# Altium footprint library myPcbLib1.PcbLib: 133 footprints (part 1 of 9)
Each footprint in its own frame and in the unit in brackets; x right, y up, seen from the top. Pads: shape width x height; smd on the part's side, far side on the other; paste and mask are expansions set on the pad; w line width, h text height; cw(c..) or ccw(c..) is an arc to the next point about the centre after c.
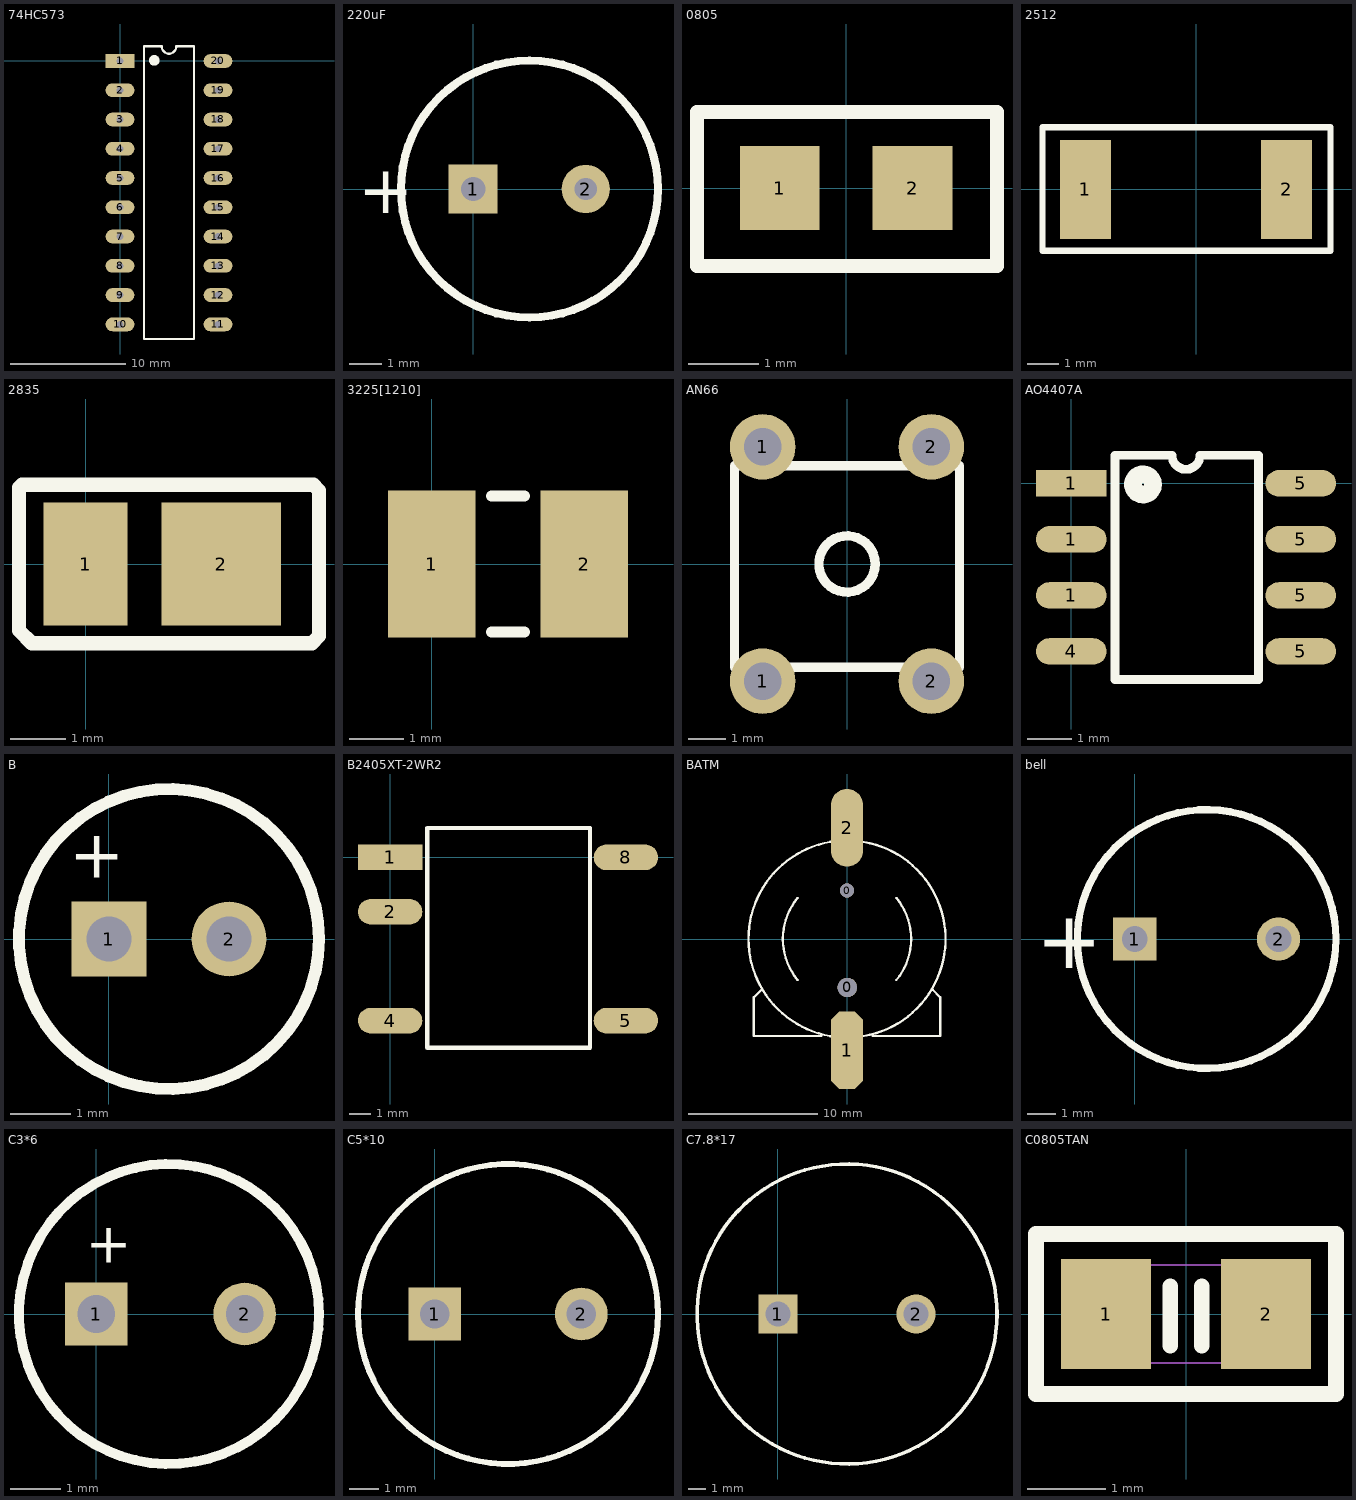
[diagram p0: the footprints below, top view; thin cyan lines are the x and y axes]

## 74HC573 [mm]
pads (20):
  rect 2.5x1.2 hole 0.6: 1(0,0)
  oval 2.5x1.2 hole 0.6: 2(0,-2.54) 3(0,-5.08) 4(0,-7.62) 5(0,-10.16) 6(0,-12.7) 7(0,-15.24) 8(0,-17.78) 9(0,-20.32) 10(0,-22.86) 11(8.5,-22.86) 12(8.5,-20.32) 13(8.5,-17.78) 14(8.5,-15.24) 15(8.5,-12.7) 16(8.5,-10.16) 17(8.5,-7.62) 18(8.5,-5.08) 19(8.5,-2.54) 20(8.5,0)
Top Overlay:
  circle w0.6: c2.972,0.051 r0.163
  lines w0.2: 2.085,-24.13 6.415,-24.13 6.415,1.27 4.885,1.27 cw(c4.25,1.27) 3.615,1.27 2.085,1.27 2.085,-24.13

## 220uF [mm]
pads (2):
  rect 1.524x1.524 hole 0.762: 1(0,0)
  round 1.5 hole 0.7: 2(3.5,0)
Top Overlay:
  circle w0.254: c1.75,0 r4
  text "+" at -3.584,-0.762 h1.5

## 0805 [mm] "1.14mm,1.2mm,3.05mm"
pads (2):
  rect 1.14x1.2 smd: 1(-0.95,0) 2(0.95,0)
Top Overlay:
  lines w0.2: -2.134,-1.118 -2.134,0.27 -2.134,1.092 2.159,1.092 2.159,-1.118 -2.134,-1.118

## 2512 [mm]
pads (2):
  rect 1.65x3.2 smd: 1(-3.58,0) 2(2.92,0)
Top Overlay:
  lines w0.2: -4.975,-1.981 4.343,-1.981 4.343,2.007 -4.975,2.007 -4.975,0 -4.975,-1.981

## 2835 [mm] "LED light footprints"
pads (2):
  rect 1.5x2.2 smd: 1(0,0)
  rect 2.15x2.2 smd: 2(2.438,0)
Top Overlay:
  lines w0.254: -1.194,-1.194 -0.965,-1.422 4.064,-1.422 4.191,-1.295 4.191,1.321 4.089,1.422 -1.143,1.422 -1.194,1.372 -1.194,1.067 -1.194,-1.194

## 3225[1210] [mm] "Chip Resistor; Body 3.2 x 2.5 mm (LxW typ)"
pads (2):
  rect 1.6x2.7 smd: 1(0,0) 2(2.8,0)
Top Overlay:
  lines w0.2: 1.1,-1.25 1.7,-1.25 ; 1.1,1.25 1.7,1.25

## AN66 [mil]
pads (4):
  round 70 hole 40: 1(-90,-125) 1(-90,125) 2(90,-125) 2(90,125)
Top Overlay:
  circle w10: c0,0 r30
  lines w10: -120,-110 120,-110 120,105 -120,105 -120,-110

## AO4407A [mm]
pads (8):
  oval 1.6x0.6 smd: 1(0,-2.54) 1(0,-1.27) 4(0,-3.81) 5(5.2,-3.81) 5(5.2,-2.54) 5(5.2,-1.27) 5(5.2,0)
  rect 1.6x0.6 smd: 1(0,0)
Top Overlay:
  circle w0.4: c1.626,-0.025 r0.227
  lines w0.2: 0.991,-4.445 0.991,0.635 2.282,0.635 ccw(c2.6,0.635) 2.917,0.635 4.242,0.635 4.242,-4.445 0.991,-4.445

## B [mm] "Capacitor, Electrolytic, Radial; Body 5 x 6.8 mm (Dia.xH typ); Pin Spacing 2 mm (typ)"
pads (2):
  rect 1.25x1.25 hole 0.75: 1(0,0)
  round 1.25 hole 0.75: 2(2,0)
Top Overlay:
  circle w0.2: c1,0 r2.5
  text "+" at -0.661,1.023 h0.8

## B2405XT-2WR2 [mm]
pads (5):
  rect 3x1.2 smd: 1(0,0)
  oval 3x1.2 smd: 2(0,-2.54) 4(0,-7.62) 5(11,-7.62) 8(11,0)
Top Overlay:
  lines w0.2: 1.727,-8.89 1.727,1.372 6.147,1.372 9.322,1.372 9.322,-8.89 1.727,-8.89

## BATM [mm]
pads (4):
  round 1.1 hole 1.1 unplated: 0(-0.012,3.75)
  round 1.5 hole 1.5 unplated: 0(0.012,-3.75)
  oct 2.5x6 smd: 1(-0.012,-8.6)
  oval 2.5x6 smd: 2(-0.012,8.6)
Top Overlay:
  lines w0.178: -6.612,-3.9 -7.212,-4.5 -7.212,-7.5 -2.012,-7.5 ; -3.827,-3.169 cw(c-0.012,0) -3.825,3.172 ; -0.846,-7.574 cw(c-0.012,0) -7.632,0 cw(c-0.012,0) -0.846,7.574 ; 0.821,-7.574 ccw(c-0.012,0) 0.821,7.574 ; 1.987,-7.5 7.187,-7.5 7.187,-4.5 6.612,-3.925 ; 3.797,-3.175 ccw(c-0.012,0) 3.8,3.172

## bell [mm]
pads (2):
  rect 1.5x1.5 hole 0.9: 1(0,0)
  round 1.5 hole 0.9: 2(5,0)
Top Overlay:
  circle w0.254: c2.5,0 r4.5
  text "+" at -3.437,-1.016 h2

## C3*6 [mm]
pads (2):
  rect 1.25x1.25 hole 0.75: 1(0,0)
  round 1.25 hole 0.75: 2(2.972,0)
Top Overlay:
  circle w0.2: c1.457,0 r3
  text "+" at -0.204,1.023 h0.8

## C5*10 [mm]
pads (2):
  rect 1.8x1.8 hole 1: 1(0,0)
  round 1.8 hole 1: 2(5,0)
Top Overlay:
  circle w0.2: c2.5,0 r5.116

## C7.8*17 [mm]
pads (2):
  rect 2.2x2.2 hole 1.4: 1(0,0)
  round 2.2 hole 1.4: 2(7.8,0)
Top Overlay:
  circle w0.2: c3.9,0 r8.472

## C0805TAN [mil]
pads (2):
  rect 45x55 smd: 1(-40,0) 2(40,0)
Top Overlay:
  lines w7.87: -7.87,-15.75 -7.87,13.78 ; 7.87,-15.75 7.87,13.78 ; -75,-40 75,-40 75,40 -75,40 -75,-40
Mechanical 8:
  lines w1: -39.37,-24.61 39.37,-24.61 39.37,24.61 -39.37,24.61 -39.37,-24.61